# Altium schematic symbol library CT100LW-FS6.SchLib: 1 symbol
Pins are listed as number, name and electrical type; pins without a type are passive.

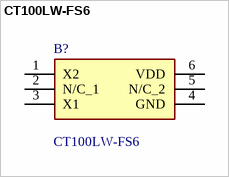
[diagram p0: symbol CT100LW-FS6]

## CT100LW-FS6
designator B?
Board Mount Hall Effect / Magnetic Sensors Differential TMR High Sensitivity Magnetic 1D Linear  Sensor ,SOT23 - 6 pin Package, F-Temp; Manufacturer_Name: Allegro Microsystems; Geometry.Height: 1.35mm; Mouser Part Number: *; Mouser Price/Stock: *; Manufacturer_Part_Number: CT100LW-FS6; Datasheet Link: *
footprint SOT95P280X135-6N
pins: 1 X2, 2 N/C_1, 3 X1, 4 GND, 5 N/C_2, 6 VDD